# Altium schematic symbol library L298P.Schlib: 1 symbol
Pins are listed as number, name and electrical type; pins without a type are passive.

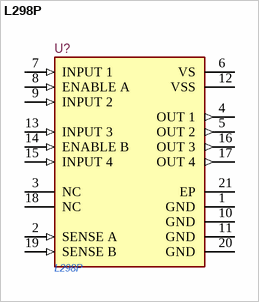
[diagram p0: symbol L298P]

## L298P
designator U?
IC BRIDGE DRIVER PAR 20POWERSO; Manufacturer 1: STMicroelectronics; Operating Supply Voltage: 42V; Min Supply Voltage: 4.8V; Max Supply Voltage: 46V; Output Current: 2A; Number of Outputs: 4; Operating Supply Current: 13mA; Max Collector Current: 3A; Number of Channels: 2; Motor Type: Brushed; Supplier 1: Digi-Key; Manufacturer Part Number 1: L298P; Stock 1: 1834; Pricing 1: 1=5.96000, 10=5.38400, 100=4.45710, 500=3.88120, 1000=3.38040 (USD); RoHS: Yes; Mount: Surface Mount; Case/Package: SOIC; Number of Pins: 20; Min Operating Temperature: -25°C; Max Operating Temperature: 130°C; Packaging: Rail/Tube; Package Quantity: 31; Collector Emitter Voltage (VCEO): 46V; Max Output Current: 3A; Output Current per Channel: 2A; Length: 16mm; Height: 3.3mm; Width: 11.1mm; Radiation Hardening: No; Lead Free: Lead Free; Supplier Part Number 1: 497-1396-5-ND; ComponentLink1Description: LCSC - STMicroelectronics L298P013TR; ComponentLink1URL: https://lcsc.com/product-detail/Others_STMicroelectronics_L298P013TR_STMicroelectronics-L298P013TR_C111210.html; LCSC Part #: C111210; JLCPCB Part Type: Extended
footprint STM-PowerSO20_N (SOIC, 20-Leads, Body 16x11.1mm, Pitch 1.27mm, Thermal Pad 16x6.2mm, IPC Medium Density)
pins: 1 GND (power) "Ground.", 2 SENSE A (in) "Between this pin and ground is connected the sense resistor to control the current of the load.", 3 NC "Not Connected", 4 OUT 1 (out) "Outputs of the Bridge A; the current that flows through the load connected between these two pins is monitored at pin 1.", 5 OUT 2 (out) "Outputs of the Bridge A; the current that flows through the load connected between these two pins is monitored at pin 1.", 6 VS (power) "Supply Voltage for the Power Output Stages. A non-inductive 100nF capacitor must be connected between this pin and ground.", 7 INPUT 1 (in) "TTL Compatible Inputs of the Bridge A.", 8 ENABLE A (in) "TTL Compatible Enable Input: the L state disables the bridge A (enable A) and/or the bridge B (enable B).", 9 INPUT 2 (in) "TTL Compatible Inputs of the Bridge A.", 10 GND (power) "Ground.", 11 GND (power) "Ground.", 12 VSS (power) "Supply Voltage for the Logic Blocks. A100nF capacitor must be connected between this pin and ground.", 13 INPUT 3 (in) "TTL Compatible Inputs of the Bridge B.", 14 ENABLE B (in) "TTL Compatible Enable Input: the L state disables the bridge A (enable A) and/or the bridge B (enable B).", 15 INPUT 4 (in) "TTL Compatible Inputs of the Bridge B.", 16 OUT 3 (out) "Outputs of the Bridge B. The current that flows through the load connected between these two pins is monitored at pin 15.", 17 OUT 4 (out) "Outputs of the Bridge B. The current that flows through the load connected between these two pins is monitored at pin 15.", 18 NC "Not Connected", 19 SENSE B (in) "Between this pin and ground is connected the sense resistor to control the current of the load.", 20 GND (power) "Ground.", 21 EP (power) "PAD"